# EAGLE library part MAX97220 (library Misaka-IC)
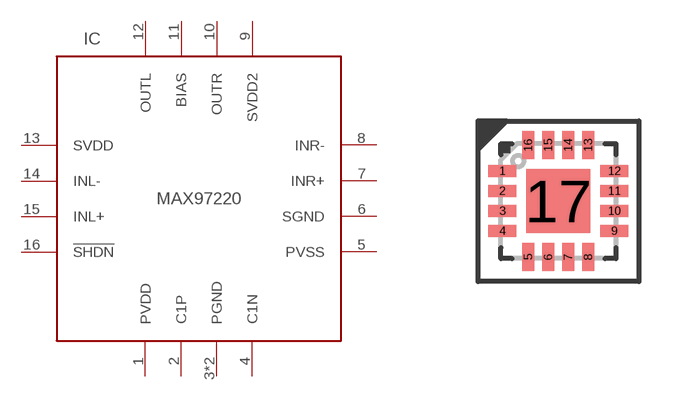
[diagram p16: symbol with the pads of TQFN16; footprint TQFN16]

Designator prefix IC

## MAX97220A  [TQFN16]
1  PVDD  pwr
2  C1P
3  PGND  pwr
4  C1N
5  PVSS  pas
6  SGND  pwr
7  INR+  in
8  INR-  in
9  SVDD2  pwr
10  OUTR  out
11  BIAS  pas
12  OUTL  out
13  SVDD  pwr
14  INL-  in
15  INL+  in
16  !SHDN  in
17  PGND  pwr

## Footprint TQFN16 (pad centres in mm)
smd 0.7 x 0.3: 1 -1.4,0.75; 2 -1.4,0.25; 3 -1.4,-0.25; 4 -1.4,-0.75; 9 1.4,-0.75; 10 1.4,-0.25; 11 1.4,0.25; 12 1.4,0.75
smd 0.3 x 0.7: 5 -0.75,-1.4; 6 -0.25,-1.4; 7 0.25,-1.4; 8 0.75,-1.4; 13 0.75,1.4; 14 0.25,1.4; 15 -0.25,1.4; 16 -0.75,1.4
smd 1.6 x 1.6: 17 0,0